# Altium schematic symbol library GENERIC_HEADER_5PIN.SchLib: 1 symbol
Pins are listed as number, name and electrical type; pins without a type are passive.

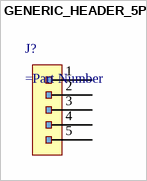
[diagram p0: symbol GENERIC_HEADER_5PIN]

## GENERIC_HEADER_5PIN
designator J?
=Description; MFR: TE Connectivity AMP Connectors; PN: 640456-6; No. of Positions: 6; No. of Rows: 1; ComponentLink1Description: Datasheet; ComponentLink1URL: https://www.te.com/commerce/DocumentDelivery/DDEController?Action=srchrtrv&DocNm=640456&DocType=Customer+Drawing&DocLang=English; Supplier 1: Future Electronics; Supplier Part Number 1: 640456-6-BAG
footprint 640456-6
pins: 1, 2, 3, 4, 5